# Altium footprint library con-amp-mt.PCBLIB: 51 footprints (part 3 of 4)
Each footprint in its own frame and in the unit in brackets; x right, y up, seen from the top. Pads: shape width x height; smd on the part's side, far side on the other; paste and mask are expansions set on the pad; w line width, h text height; cw(c..) or ccw(c..) is an arc to the next point about the centre after c.
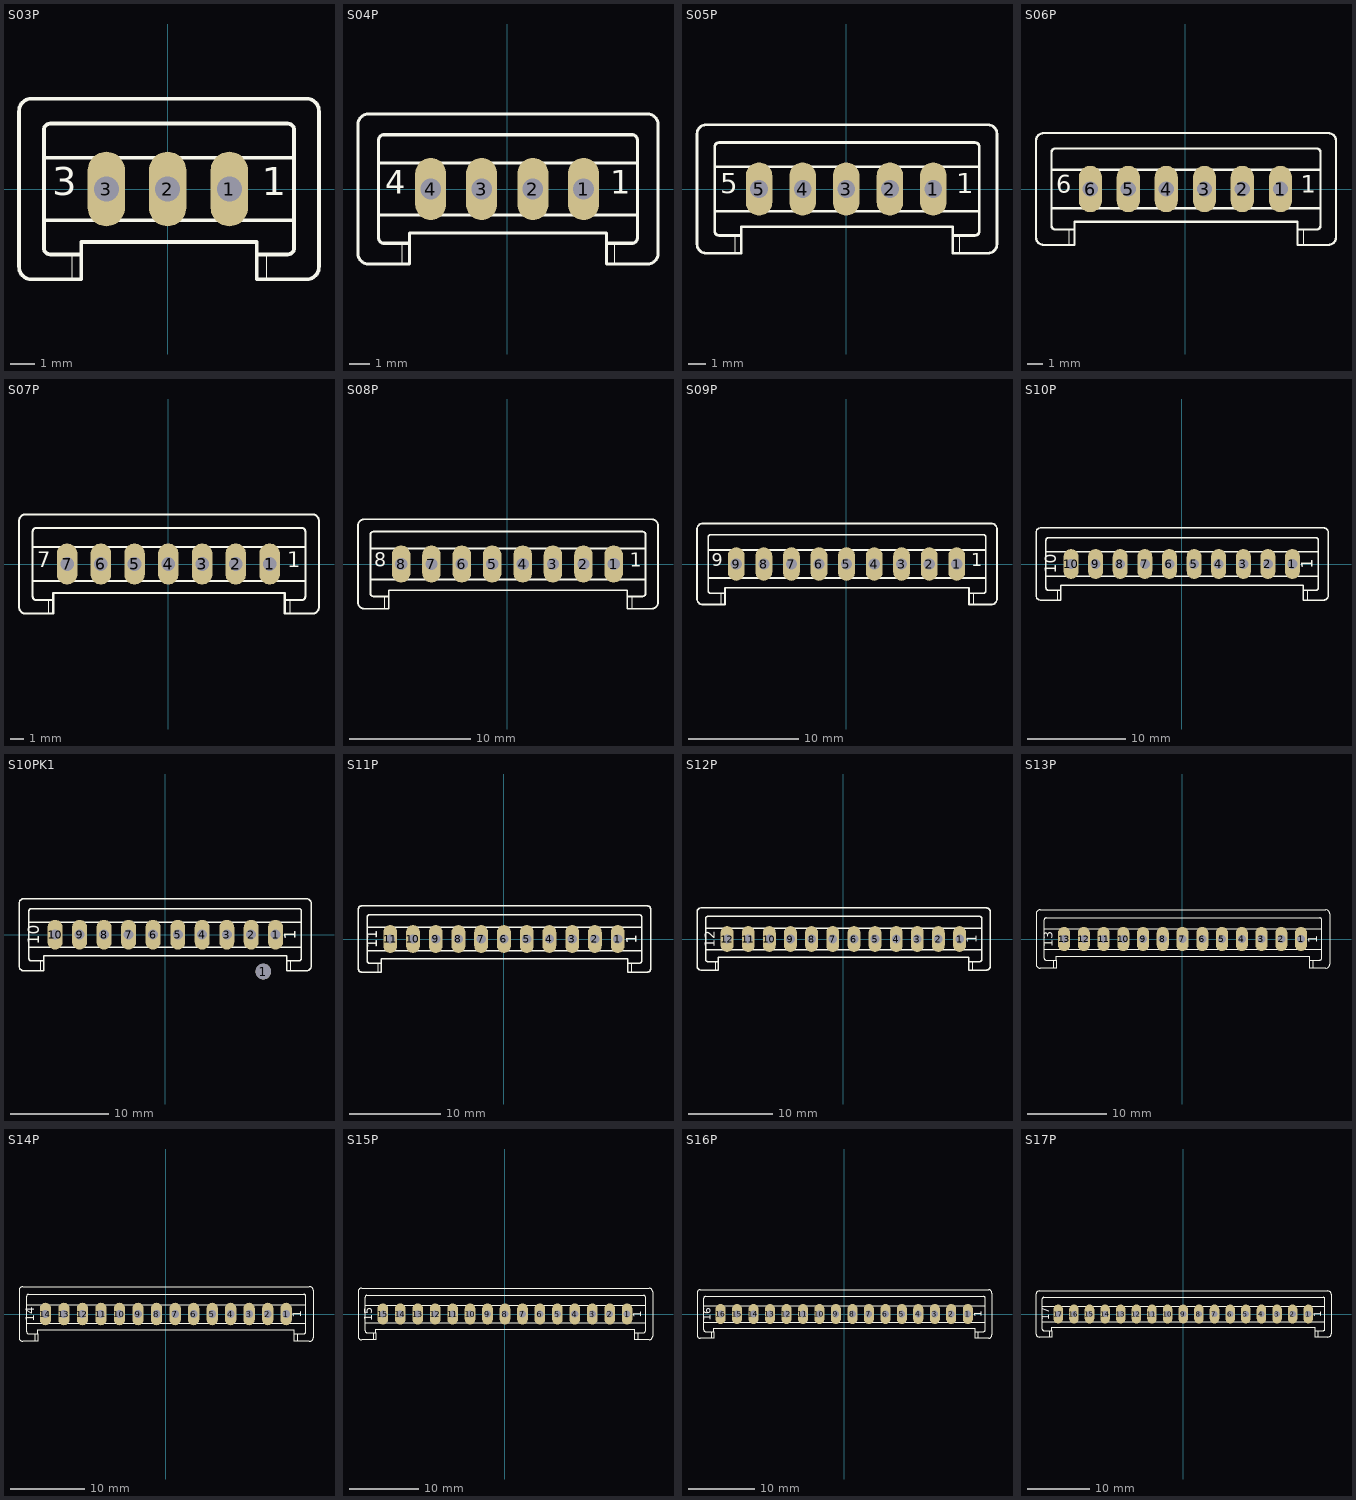
[diagram p2: the footprints below, top view; thin cyan lines are the x and y axes]

## S03P [mil]
pads (3):
  oval 60x120 hole 40: 1(99,0) 2(0,0) 3(-98.43,0)
Top Overlay:
  lines w2: -153.58,-145 -153.58,-105 ; 158,-145 158,-105
  lines w6: -198.58,-50 -198.58,-95 ccw(c-188.58,-95) -188.58,-105 -153.58,-105 -138.58,-105 ; -198.58,-50 203,-50 ; -198.58,-50 -198.58,50 ; -198.58,50 203,50 ; -198.58,50 -198.58,95 cw(c-188.58,95) -188.58,105 193,105 cw(c193,95) 203,95 203,50 ; -138.58,-105 -138.58,-145 -153.58,-145 -218.58,-145 cw(c-218.58,-125) -238.58,-125 -238.58,125 cw(c-218.58,125) -218.58,145 223,145 cw(c223,125) 243,125 243,-125 cw(c223,-125) 223,-145 158,-145 143,-145 143,-105 ; -138.58,-105 -138.58,-85 143,-85 143,-105 ; 143,-105 158,-105 193,-105 ccw(c193,-95) 203,-95 203,-50 ; 203,-50 203,50
  text "1" at 151,-25 h77.5
  text "3" at -185.57,-25 h77.5
Mechanical 16:
  lines w6: -112.56,-15 -82.56,-15 ; -112.56,-15 -112.56,15 ; -112.56,-15 -82.56,15 ; -112.56,15 -82.56,15 ; -112.56,15 -82.56,-15 ; -82.56,-15 -82.56,15 ; -14.57,-15 -14.57,15 ; -14.57,-15 16,15 ; -14.57,-15 16,-15 ; -14.57,15 16,15 ; -14.57,15 16,-15 ; 16,-15 16,15 ; 84,-15 84,15 ; 84,-15 114,15 ; 84,-15 114,-15 ; 84,15 114,15 ; 84,15 114,-15 ; 114,-15 114,15

## S04P [mil]
pads (4):
  oval 60x120 hole 40: 1(148,0) 2(50,0) 3(-49.21,0) 4(-147.64,0)
Top Overlay:
  lines w2: -203.35,-145 -203.35,-105 ; 207,-145 207,-105
  lines w6: -248.35,-50 -248.35,-95 ccw(c-238.35,-95) -238.35,-105 -203.35,-105 -188.35,-105 ; -248.35,-50 252,-50 ; -248.35,-50 -248.35,50 ; -248.35,50 252,50 ; -248.35,50 -248.35,95 cw(c-238.35,95) -238.35,105 242,105 cw(c242,95) 252,95 252,50 ; -188.35,-105 -188.35,-145 -203.35,-145 -268.35,-145 cw(c-268.35,-125) -288.35,-125 -288.35,125 cw(c-268.35,125) -268.35,145 272,145 cw(c272,125) 292,125 292,-125 cw(c272,-125) 272,-145 207,-145 192,-145 192,-105 ; -188.35,-105 -188.35,-85 192,-85 192,-105 ; 192,-105 207,-105 242,-105 ccw(c242,-95) 252,-95 252,-50 ; 252,-50 252,50
  text "1" at 200,-25 h77.5
  text "4" at -235.36,-25 h77.5
Mechanical 16:
  lines w6: -162.36,-15 -162.36,15 ; -162.36,-15 -132.36,-15 ; -162.36,-15 -132.36,15 ; -162.36,15 -132.36,15 ; -162.36,15 -132.36,-15 ; -132.36,-15 -132.36,15 ; -63.35,-15 -33.35,-15 ; -63.35,-15 -63.35,15 ; -63.35,-15 -33.35,15 ; -63.35,15 -33.35,15 ; -63.35,15 -33.35,-15 ; -33.35,-15 -33.35,15 ; 35,-15 35,15 ; 35,-15 65,15 ; 35,-15 65,-15 ; 35,15 65,15 ; 35,15 65,-15 ; 65,-15 65,15 ; 133,-15 133,15 ; 133,-15 163,15 ; 133,-15 163,-15 ; 133,15 163,15 ; 133,15 163,-15 ; 163,-15 163,15

## S05P [mil]
pads (5):
  oval 60x120 hole 40: 1(197,0) 2(99,0) 3(0,0) 4(-98.43,0) 5(-196.85,0)
Top Overlay:
  lines w2: -252.17,-145 -252.17,-105 ; 256,-145 256,-105
  lines w6: -297.17,-50 -297.17,-95 ccw(c-287.17,-95) -287.17,-105 -252.17,-105 -237.17,-105 ; -297.17,-50 301,-50 ; -297.17,-50 -297.17,50 ; -297.17,50 301,50 ; -297.17,50 -297.17,95 cw(c-287.17,95) -287.17,105 291,105 cw(c291,95) 301,95 301,50 ; -237.17,-105 -237.17,-145 -252.17,-145 -317.17,-145 cw(c-317.17,-125) -337.17,-125 -337.17,125 cw(c-317.17,125) -317.17,145 321,145 cw(c321,125) 341,125 341,-125 cw(c321,-125) 321,-145 256,-145 241,-145 241,-105 ; -237.17,-105 -237.17,-85 241,-85 241,-105 ; 241,-105 256,-105 291,-105 ccw(c291,-95) 301,-95 301,-50 ; 301,-50 301,50
  text "1" at 249,-25 h77.5
  text "5" at -284.15,-25 h77.5
Mechanical 16:
  lines w6: -211.14,-15 -181.14,15 ; -211.14,-15 -181.14,-15 ; -211.14,-15 -211.14,15 ; -211.14,15 -181.14,-15 ; -211.14,15 -181.14,15 ; -181.14,-15 -181.14,15 ; -113.15,-15 -113.15,15 ; -113.15,-15 -83.15,-15 ; -113.15,-15 -83.15,15 ; -113.15,15 -83.15,15 ; -113.15,15 -83.15,-15 ; -83.15,-15 -83.15,15 ; -14.13,-15 16,-15 ; -14.13,-15 -14.13,15 ; -14.13,-15 16,15 ; -14.13,15 16,15 ; -14.13,15 16,-15 ; 16,-15 16,15 ; 84,-15 84,15 ; 84,-15 114,15 ; 84,-15 114,-15 ; 84,15 114,15 ; 84,15 114,-15 ; 114,-15 114,15 ; 182,-15 182,15 ; 182,-15 212,15 ; 182,-15 212,-15 ; 182,15 212,15 ; 182,15 212,-15 ; 212,-15 212,15

## S06P [mil]
pads (6):
  oval 60x120 hole 40: 1(247,0) 2(148,0) 3(50,0) 4(-49.21,0) 5(-147.64,0) 6(-246.06,0)
Top Overlay:
  lines w2: -301.93,-145 -301.93,-105 ; 306,-145 306,-105
  lines w6: -346.93,-50 -346.93,-95 ccw(c-336.93,-95) -336.93,-105 -301.93,-105 -286.93,-105 ; -346.93,-50 351,-50 ; -346.93,-50 -346.93,50 ; -346.93,50 351,50 ; -346.93,50 -346.93,95 cw(c-336.93,95) -336.93,105 341,105 cw(c341,95) 351,95 351,50 ; -286.93,-105 -286.93,-145 -301.93,-145 -366.93,-145 cw(c-366.93,-125) -386.93,-125 -386.93,125 cw(c-366.93,125) -366.93,145 371,145 cw(c371,125) 391,125 391,-125 cw(c371,-125) 371,-145 306,-145 291,-145 291,-105 ; -286.93,-105 -286.93,-85 291,-85 291,-105 ; 291,-105 306,-105 341,-105 ccw(c341,-95) 351,-95 351,-50 ; 351,-50 351,50
  text "1" at 299,-25 h77.5
  text "6" at -333.94,-25 h77.5
Mechanical 16:
  lines w6: -261.93,-15 -231.93,15 ; -261.93,-15 -261.93,15 ; -261.93,-15 -231.93,-15 ; -261.93,15 -231.93,-15 ; -261.93,15 -231.93,15 ; -231.93,-15 -231.93,15 ; -161.93,-15 -131.93,15 ; -161.93,-15 -131.93,-15 ; -161.93,-15 -161.93,15 ; -161.93,15 -131.93,-15 ; -161.93,15 -131.93,15 ; -131.93,-15 -131.93,15 ; -63.94,-15 -63.94,15 ; -63.94,-15 -33.94,-15 ; -63.94,-15 -33.94,15 ; -63.94,15 -33.94,15 ; -63.94,15 -33.94,-15 ; -33.94,-15 -33.94,15 ; 36,-15 66,-15 ; 36,-15 36,15 ; 36,-15 66,15 ; 36,15 66,15 ; 36,15 66,-15 ; 66,-15 66,15 ; 134,-15 134,15 ; 134,-15 164,15 ; 134,-15 164,-15 ; 134,15 164,15 ; 134,15 164,-15 ; 164,-15 164,15 ; 232,-15 232,15 ; 232,-15 262,15 ; 232,-15 262,-15 ; 232,15 262,15 ; 232,15 262,-15 ; 262,-15 262,15

## S07P [mil]
pads (7):
  oval 60x120 hole 40: 1(296,0) 2(197,0) 3(99,0) 4(0,0) 5(-98.43,0) 6(-196.85,0) 7(-295.28,0)
Top Overlay:
  lines w2: -350.71,-145 -350.71,-105 ; 355,-145 355,-105
  lines w6: -395.71,-50 -395.71,-95 ccw(c-385.71,-95) -385.71,-105 -350.71,-105 -335.71,-105 ; -395.71,-50 400,-50 ; -395.71,-50 -395.71,50 ; -395.71,50 400,50 ; -395.71,50 -395.71,95 cw(c-385.71,95) -385.71,105 390,105 cw(c390,95) 400,95 400,50 ; -335.71,-105 -335.71,-145 -350.71,-145 -415.71,-145 cw(c-415.71,-125) -435.71,-125 -435.71,125 cw(c-415.71,125) -415.71,145 420,145 cw(c420,125) 440,125 440,-125 cw(c420,-125) 420,-145 355,-145 340,-145 340,-105 ; -335.71,-105 -335.71,-85 340,-85 340,-105 ; 340,-105 355,-105 390,-105 ccw(c390,-95) 400,-95 400,-50 ; 400,-50 400,50
  text "1" at 348,-25 h77.5
  text "7" at -382.72,-25 h77.5
Mechanical 16:
  lines w6: -310.71,-15 -280.71,-15 ; -310.71,-15 -310.71,15 ; -310.71,-15 -280.71,15 ; -310.71,15 -280.71,15 ; -310.71,15 -280.71,-15 ; -280.71,-15 -280.71,15 ; -212.72,-15 -182.72,15 ; -212.72,-15 -212.72,15 ; -212.72,-15 -182.72,-15 ; -212.72,15 -182.72,-15 ; -212.72,15 -182.72,15 ; -182.72,-15 -182.72,15 ; -112.72,-15 -82.72,15 ; -112.72,-15 -82.72,-15 ; -112.72,-15 -112.72,15 ; -112.72,15 -82.72,-15 ; -112.72,15 -82.72,15 ; -82.72,-15 -82.72,15 ; -14.72,-15 -14.72,15 ; -14.72,-15 16,-15 ; -14.72,-15 16,15 ; -14.72,15 16,15 ; -14.72,15 16,-15 ; 16,-15 16,15 ; 85,-15 115,-15 ; 85,-15 85,15 ; 85,-15 115,15 ; 85,15 115,15 ; 85,15 115,-15 ; 115,-15 115,15 ; 183,-15 183,15 ; 183,-15 213,15 ; 183,-15 213,-15 ; 183,15 213,15 ; 183,15 213,-15 ; 213,-15 213,15 ; 281,-15 281,15 ; 281,-15 311,15 ; 281,-15 311,-15 ; 281,15 311,15 ; 281,15 311,-15 ; 311,-15 311,15

## S08P [mil]
pads (8):
  oval 60x120 hole 40: 1(345,0) 2(247,0) 3(148,0) 4(50,0) 5(-49.21,0) 6(-147.64,0) 7(-246.06,0) 8(-344.49,0)
Top Overlay:
  lines w2: -399.53,-145 -399.53,-105 ; 404,-145 404,-105
  lines w6: -444.53,-50 -444.53,-95 ccw(c-434.53,-95) -434.53,-105 -399.53,-105 -384.53,-105 ; -444.53,-50 449,-50 ; -444.53,-50 -444.53,50 ; -444.53,50 449,50 ; -444.53,50 -444.53,95 cw(c-434.53,95) -434.53,105 439,105 cw(c439,95) 449,95 449,50 ; -384.53,-105 -384.53,-145 -399.53,-145 -464.53,-145 cw(c-464.53,-125) -484.53,-125 -484.53,125 cw(c-464.53,125) -464.53,145 469,145 cw(c469,125) 489,125 489,-125 cw(c469,-125) 469,-145 404,-145 389,-145 389,-105 ; -384.53,-105 -384.53,-85 389,-85 389,-105 ; 389,-105 404,-105 439,-105 ccw(c439,-95) 449,-95 449,-50 ; 449,-50 449,50
  text "1" at 397,-25 h77.5
  text "8" at -431.51,-25 h77.5
Mechanical 16:
  lines w6: -360.51,-15 -330.51,-15 ; -360.51,-15 -360.51,15 ; -360.51,-15 -330.51,15 ; -360.51,15 -330.51,15 ; -360.51,15 -330.51,-15 ; -330.51,-15 -330.51,15 ; -261.5,-15 -231.5,-15 ; -261.5,-15 -261.5,15 ; -261.5,-15 -231.5,15 ; -261.5,15 -231.5,15 ; -261.5,15 -231.5,-15 ; -231.5,-15 -231.5,15 ; -163.5,-15 -133.5,15 ; -163.5,-15 -163.5,15 ; -163.5,-15 -133.5,-15 ; -163.5,15 -133.5,-15 ; -163.5,15 -133.5,15 ; -133.5,-15 -133.5,15 ; -63.5,-15 -33.5,15 ; -63.5,-15 -33.5,-15 ; -63.5,-15 -63.5,15 ; -63.5,15 -33.5,-15 ; -63.5,15 -33.5,15 ; -33.5,-15 -33.5,15 ; 35,-15 35,15 ; 35,-15 65,-15 ; 35,-15 65,15 ; 35,15 65,15 ; 35,15 65,-15 ; 65,-15 65,15 ; 134,-15 164,-15 ; 134,-15 134,15 ; 134,-15 164,15 ; 134,15 164,15 ; 134,15 164,-15 ; 164,-15 164,15 ; 232,-15 232,15 ; 232,-15 262,15 ; 232,-15 262,-15 ; 232,15 262,15 ; 232,15 262,-15 ; 262,-15 262,15 ; 330,-15 330,15 ; 330,-15 360,15 ; 330,-15 360,-15 ; 330,15 360,15 ; 330,15 360,-15 ; 360,-15 360,15

## S09P [mil]
pads (9):
  oval 60x120 hole 40: 1(394,0) 2(296,0) 3(197,0) 4(99,0) 5(0,0) 6(-98.43,0) 7(-196.85,0) 8(-295.28,0) 9(-393.7,0)
Top Overlay:
  lines w2: -449.3,-145 -449.3,-105 ; 453,-145 453,-105
  lines w6: -494.3,-50 -494.3,-95 ccw(c-484.3,-95) -484.3,-105 -449.3,-105 -434.3,-105 ; -494.3,-50 498,-50 ; -494.3,-50 -494.3,50 ; -494.3,50 498,50 ; -494.3,50 -494.3,95 cw(c-484.3,95) -484.3,105 488,105 cw(c488,95) 498,95 498,50 ; -434.3,-105 -434.3,-145 -449.3,-145 -514.3,-145 cw(c-514.3,-125) -534.3,-125 -534.3,125 cw(c-514.3,125) -514.3,145 518,145 cw(c518,125) 538,125 538,-125 cw(c518,-125) 518,-145 453,-145 438,-145 438,-105 ; -434.3,-105 -434.3,-85 438,-85 438,-105 ; 438,-105 453,-105 488,-105 ccw(c488,-95) 498,-95 498,-50 ; 498,-50 498,50
  text "1" at 446,-25 h77.5
  text "9" at -481.3,-25 h77.5
Mechanical 16:
  lines w6: -409.3,-15 -409.3,15 ; -409.3,-15 -379.3,15 ; -409.3,-15 -379.3,-15 ; -409.3,15 -379.3,15 ; -409.3,15 -379.3,-15 ; -379.3,-15 -379.3,15 ; -311.3,-15 -281.3,-15 ; -311.3,-15 -311.3,15 ; -311.3,-15 -281.3,15 ; -311.3,15 -281.3,15 ; -311.3,15 -281.3,-15 ; -281.3,-15 -281.3,15 ; -212.3,-15 -182.3,-15 ; -212.3,-15 -212.3,15 ; -212.3,-15 -182.3,15 ; -212.3,15 -182.3,15 ; -212.3,15 -182.3,-15 ; -182.3,-15 -182.3,15 ; -114.3,-15 -84.3,15 ; -114.3,-15 -114.3,15 ; -114.3,-15 -84.3,-15 ; -114.3,15 -84.3,-15 ; -114.3,15 -84.3,15 ; -84.3,-15 -84.3,15 ; -14.3,-15 16,15 ; -14.3,-15 16,-15 ; -14.3,-15 -14.3,15 ; -14.3,15 16,-15 ; -14.3,15 16,15 ; 16,-15 16,15 ; 84,-15 84,15 ; 84,-15 114,-15 ; 84,-15 114,15 ; 84,15 114,15 ; 84,15 114,-15 ; 114,-15 114,15 ; 183,-15 213,-15 ; 183,-15 183,15 ; 183,-15 213,15 ; 183,15 213,15 ; 183,15 213,-15 ; 213,-15 213,15 ; 281,-15 281,15 ; 281,-15 311,15 ; 281,-15 311,-15 ; 281,15 311,15 ; 281,15 311,-15 ; 311,-15 311,15 ; 379,-15 379,15 ; 379,-15 409,15 ; 379,-15 409,-15 ; 379,15 409,15 ; 379,15 409,-15 ; 409,-15 409,15

## S10P [mil]
pads (10):
  oval 60x120 hole 40: 1(443,0) 2(345,0) 3(247,0) 4(148,0) 5(50,0) 6(-49.21,0) 7(-147.64,0) 8(-246.06,0) 9(-344.49,0) 10(-442.91,0)
Top Overlay:
  lines w2: -498.07,-145 -498.07,-105 ; 502,-145 502,-105
  lines w6: -543.07,-50 -543.07,-95 ccw(c-533.07,-95) -533.07,-105 -498.07,-105 -483.07,-105 ; -543.07,-50 547,-50 ; -543.07,-50 -543.07,50 ; -543.07,50 547,50 ; -543.07,50 -543.07,95 cw(c-533.07,95) -533.07,105 537,105 cw(c537,95) 547,95 547,50 ; -483.07,-105 -483.07,-145 -498.07,-145 -563.07,-145 cw(c-563.07,-125) -583.07,-125 -583.07,125 cw(c-563.07,125) -563.07,145 567,145 cw(c567,125) 587,125 587,-125 cw(c567,-125) 567,-145 502,-145 487,-145 487,-105 ; -483.07,-105 -483.07,-85 487,-85 487,-105 ; 487,-105 502,-105 537,-105 ccw(c537,-95) 547,-95 547,-50 ; 547,-50 547,50
  text "1" at 540,-20 h77.5
  text "10" at -485.09,-40 h77.5
Mechanical 16:
  lines w6: -458.07,-15 -428.07,-15 ; -458.07,-15 -458.07,15 ; -458.07,-15 -428.07,15 ; -458.07,15 -428.07,15 ; -458.07,15 -428.07,-15 ; -428.07,-15 -428.07,15 ; -360.08,-15 -360.08,15 ; -360.08,-15 -330.08,15 ; -360.08,-15 -330.08,-15 ; -360.08,15 -330.08,15 ; -360.08,15 -330.08,-15 ; -330.08,-15 -330.08,15 ; -262.09,-15 -232.09,-15 ; -262.09,-15 -262.09,15 ; -262.09,-15 -232.09,15 ; -262.09,15 -232.09,15 ; -262.09,15 -232.09,-15 ; -232.09,-15 -232.09,15 ; -163.07,-15 -133.07,-15 ; -163.07,-15 -163.07,15 ; -163.07,-15 -133.07,15 ; -163.07,15 -133.07,15 ; -163.07,15 -133.07,-15 ; -133.07,-15 -133.07,15 ; -65.08,-15 -35.08,15 ; -65.08,-15 -65.08,15 ; -65.08,-15 -35.08,-15 ; -65.08,15 -35.08,-15 ; -65.08,15 -35.08,15 ; -35.08,-15 -35.08,15 ; 35,-15 65,15 ; 35,-15 65,-15 ; 35,-15 35,15 ; 35,15 65,-15 ; 35,15 65,15 ; 65,-15 65,15 ; 133,-15 133,15 ; 133,-15 163,-15 ; 133,-15 163,15 ; 133,15 163,15 ; 133,15 163,-15 ; 163,-15 163,15 ; 232,-15 262,-15 ; 232,-15 232,15 ; 232,-15 262,15 ; 232,15 262,15 ; 232,15 262,-15 ; 262,-15 262,15 ; 330,-15 330,15 ; 330,-15 360,15 ; 330,-15 360,-15 ; 330,15 360,15 ; 330,15 360,-15 ; 360,-15 360,15 ; 428,-15 428,15 ; 428,-15 458,15 ; 428,-15 458,-15 ; 428,15 458,15 ; 428,15 458,-15 ; 458,-15 458,15

## S10PK1 [mil]
pads (11):
  round 63 hole 63: 1(394,-148)
  oval 60x120 hole 40: 1(443,0) 2(345,0) 3(247,0) 4(148,0) 5(50,0) 6(-49.21,0) 7(-147.64,0) 8(-246.06,0) 9(-344.49,0) 10(-442.91,0)
Top Overlay:
  lines w2: -503.07,-145 -503.07,-105 ; 502,-145 502,-105
  lines w6: -548.07,-50 -548.07,-95 ccw(c-538.07,-95) -538.07,-105 -503.07,-105 -488.07,-105 ; -548.07,-50 547,-50 ; -548.07,-50 -548.07,50 ; -548.07,50 547,50 ; -548.07,50 -548.07,95 cw(c-538.07,95) -538.07,105 537,105 cw(c537,95) 547,95 547,50 ; -488.07,-105 -488.07,-145 -503.07,-145 -568.07,-145 cw(c-568.07,-125) -588.07,-125 -588.07,125 cw(c-568.07,125) -568.07,145 567,145 cw(c567,125) 587,125 587,-125 cw(c567,-125) 567,-145 502,-145 487,-145 487,-105 ; -488.07,-105 -488.07,-85 487,-85 487,-105 ; 487,-105 502,-105 537,-105 ccw(c537,-95) 547,-95 547,-50 ; 547,-50 547,50
  text "1" at 540,-20 h77.5
  text "10" at -490.09,-40 h77.5
Mechanical 16:
  lines w6: -458.07,-15 -428.07,-15 ; -458.07,-15 -458.07,15 ; -458.07,-15 -428.07,15 ; -458.07,15 -428.07,15 ; -458.07,15 -428.07,-15 ; -428.07,-15 -428.07,15 ; -360.08,-15 -360.08,15 ; -360.08,-15 -330.08,15 ; -360.08,-15 -330.08,-15 ; -360.08,15 -330.08,15 ; -360.08,15 -330.08,-15 ; -330.08,-15 -330.08,15 ; -262.09,-15 -232.09,-15 ; -262.09,-15 -262.09,15 ; -262.09,-15 -232.09,15 ; -262.09,15 -232.09,15 ; -262.09,15 -232.09,-15 ; -232.09,-15 -232.09,15 ; -163.07,-15 -133.07,-15 ; -163.07,-15 -163.07,15 ; -163.07,-15 -133.07,15 ; -163.07,15 -133.07,15 ; -163.07,15 -133.07,-15 ; -133.07,-15 -133.07,15 ; -65.08,-15 -35.08,15 ; -65.08,-15 -65.08,15 ; -65.08,-15 -35.08,-15 ; -65.08,15 -35.08,-15 ; -65.08,15 -35.08,15 ; -35.08,-15 -35.08,15 ; 35,-15 65,15 ; 35,-15 65,-15 ; 35,-15 35,15 ; 35,15 65,-15 ; 35,15 65,15 ; 65,-15 65,15 ; 133,-15 133,15 ; 133,-15 163,-15 ; 133,-15 163,15 ; 133,15 163,15 ; 133,15 163,-15 ; 163,-15 163,15 ; 232,-15 262,-15 ; 232,-15 232,15 ; 232,-15 262,15 ; 232,15 262,15 ; 232,15 262,-15 ; 262,-15 262,15 ; 330,-15 330,15 ; 330,-15 360,15 ; 330,-15 360,-15 ; 330,15 360,15 ; 330,15 360,-15 ; 360,-15 360,15 ; 428,-15 428,15 ; 428,-15 458,15 ; 428,-15 458,-15 ; 428,15 458,15 ; 428,15 458,-15 ; 458,-15 458,15

## S11P [mil]
pads (11):
  oval 60x120 hole 40: 1(493,0) 2(394,0) 3(296,0) 4(197,0) 5(99,0) 6(0,0) 7(-98.43,0) 8(-196.85,0) 9(-295.28,0) 10(-393.7,0) 11(-492.13,0)
Top Overlay:
  lines w2: -546.89,-145 -546.89,-105 ; 552,-145 552,-105
  lines w6: -591.89,-50 -591.89,-95 ccw(c-581.89,-95) -581.89,-105 -546.89,-105 -531.89,-105 ; -591.89,-50 597,-50 ; -591.89,-50 -591.89,50 ; -591.89,50 597,50 ; -591.89,50 -591.89,95 cw(c-581.89,95) -581.89,105 587,105 cw(c587,95) 597,95 597,50 ; -531.89,-105 -531.89,-145 -546.89,-145 -611.89,-145 cw(c-611.89,-125) -631.89,-125 -631.89,125 cw(c-611.89,125) -611.89,145 617,145 cw(c617,125) 637,125 637,-125 cw(c617,-125) 617,-145 552,-145 537,-145 537,-105 ; -531.89,-105 -531.89,-85 537,-85 537,-105 ; 537,-105 552,-105 587,-105 ccw(c587,-95) 597,-95 597,-50 ; 597,-50 597,50
  text "1" at 590,-20 h77.5
  text "11" at -533.87,-40 h77.5
Mechanical 16:
  lines w6: -506.89,-15 -476.89,-15 ; -506.89,-15 -506.89,15 ; -506.89,-15 -476.89,15 ; -506.89,15 -476.89,-15 ; -506.89,15 -476.89,15 ; -476.89,-15 -476.89,15 ; -408.86,-15 -378.86,-15 ; -408.86,-15 -408.86,15 ; -408.86,-15 -378.86,15 ; -408.86,15 -378.86,15 ; -408.86,15 -378.86,-15 ; -378.86,-15 -378.86,15 ; -310.87,-15 -310.87,15 ; -310.87,-15 -280.87,15 ; -310.87,-15 -280.87,-15 ; -310.87,15 -280.87,15 ; -310.87,15 -280.87,-15 ; -280.87,-15 -280.87,15 ; -212.87,-15 -182.87,-15 ; -212.87,-15 -212.87,15 ; -212.87,-15 -182.87,15 ; -212.87,15 -182.87,15 ; -212.87,15 -182.87,-15 ; -182.87,-15 -182.87,15 ; -113.86,-15 -83.86,-15 ; -113.86,-15 -113.86,15 ; -113.86,-15 -83.86,15 ; -113.86,15 -83.86,15 ; -113.86,15 -83.86,-15 ; -83.86,-15 -83.86,15 ; -15.87,-15 15,15 ; -15.87,-15 -15.87,15 ; -15.87,-15 15,-15 ; -15.87,15 15,-15 ; -15.87,15 15,15 ; 15,-15 15,15 ; 85,-15 115,15 ; 85,-15 115,-15 ; 85,-15 85,15 ; 85,15 115,-15 ; 85,15 115,15 ; 115,-15 115,15 ; 183,-15 183,15 ; 183,-15 213,-15 ; 183,-15 213,15 ; 183,15 213,15 ; 183,15 213,-15 ; 213,-15 213,15 ; 282,-15 312,-15 ; 282,-15 282,15 ; 282,-15 312,15 ; 282,15 312,15 ; 282,15 312,-15 ; 312,-15 312,15 ; 380,-15 380,15 ; 380,-15 410,15 ; 380,-15 410,-15 ; 380,15 410,15 ; 380,15 410,-15 ; 410,-15 410,15 ; 478,-15 478,15 ; 478,-15 508,15 ; 478,-15 508,-15 ; 478,15 508,15 ; 478,15 508,-15 ; 508,-15 508,15

## S12P [mil]
pads (12):
  oval 60x120 hole 40: 1(542,0) 2(443,0) 3(345,0) 4(247,0) 5(148,0) 6(50,0) 7(-49.21,0) 8(-147.64,0) 9(-246.06,0) 10(-344.49,0) 11(-442.91,0) 12(-541.34,0)
Top Overlay:
  lines w2: -596.65,-145 -596.65,-105 ; 601,-145 601,-105
  lines w6: -641.65,-50 -641.65,-95 ccw(c-631.65,-95) -631.65,-105 -596.65,-105 -581.65,-105 ; -641.65,-50 646,-50 ; -641.65,-50 -641.65,50 ; -641.65,50 646,50 ; -641.65,50 -641.65,95 cw(c-631.65,95) -631.65,105 636,105 cw(c636,95) 646,95 646,50 ; -581.65,-105 -581.65,-145 -596.65,-145 -661.65,-145 cw(c-661.65,-125) -681.65,-125 -681.65,125 cw(c-661.65,125) -661.65,145 666,145 cw(c666,125) 686,125 686,-125 cw(c666,-125) 666,-145 601,-145 586,-145 586,-105 ; -581.65,-105 -581.65,-85 586,-85 586,-105 ; 586,-105 601,-105 636,-105 ccw(c636,-95) 646,-95 646,-50 ; 646,-50 646,50
  text "1" at 639,-20 h77.5
  text "12" at -583.66,-40 h77.5
Mechanical 16:
  lines w6: -556.65,-15 -526.65,15 ; -556.65,-15 -556.65,15 ; -556.65,-15 -526.65,-15 ; -556.65,15 -526.65,-15 ; -556.65,15 -526.65,15 ; -526.65,-15 -526.65,15 ; -457.68,-15 -427.68,15 ; -457.68,-15 -457.68,15 ; -457.68,-15 -427.68,-15 ; -457.68,15 -427.68,-15 ; -457.68,15 -427.68,15 ; -427.68,-15 -427.68,15 ; -359.65,-15 -329.65,-15 ; -359.65,-15 -359.65,15 ; -359.65,-15 -329.65,15 ; -359.65,15 -329.65,15 ; -359.65,15 -329.65,-15 ; -329.65,-15 -329.65,15 ; -261.65,-15 -261.65,15 ; -261.65,-15 -231.65,15 ; -261.65,-15 -231.65,-15 ; -261.65,15 -231.65,15 ; -261.65,15 -231.65,-15 ; -231.65,-15 -231.65,15 ; -163.66,-15 -133.66,-15 ; -163.66,-15 -163.66,15 ; -163.66,-15 -133.66,15 ; -163.66,15 -133.66,15 ; -163.66,15 -133.66,-15 ; -133.66,-15 -133.66,15 ; -64.65,-15 -34.65,-15 ; -64.65,-15 -64.65,15 ; -64.65,-15 -34.65,15 ; -64.65,15 -34.65,15 ; -64.65,15 -34.65,-15 ; -34.65,-15 -34.65,15 ; 34,-15 64,15 ; 34,-15 34,15 ; 34,-15 64,-15 ; 34,15 64,-15 ; 34,15 64,15 ; 64,-15 64,15 ; 134,-15 164,15 ; 134,-15 164,-15 ; 134,-15 134,15 ; 134,15 164,-15 ; 134,15 164,15 ; 164,-15 164,15 ; 232,-15 232,15 ; 232,-15 262,-15 ; 232,-15 262,15 ; 232,15 262,15 ; 232,15 262,-15 ; 262,-15 262,15 ; 331,-15 361,-15 ; 331,-15 331,15 ; 331,-15 361,15 ; 331,15 361,15 ; 331,15 361,-15 ; 361,-15 361,15 ; 429,-15 429,15 ; 429,-15 459,15 ; 429,-15 459,-15 ; 429,15 459,15 ; 429,15 459,-15 ; 459,-15 459,15 ; 527,-15 527,15 ; 527,-15 557,15 ; 527,-15 557,-15 ; 527,15 557,15 ; 527,15 557,-15 ; 557,-15 557,15

## S13P [mil]
pads (13):
  oval 60x120 hole 40: 1(591,0) 2(493,0) 3(394,0) 4(296,0) 5(197,0) 6(99,0) 7(0,0) 8(-98.43,0) 9(-196.85,0) 10(-295.28,0) 11(-393.7,0) 12(-492.13,0) 13(-590.55,0)
Top Overlay:
  lines w2: -645.43,-145 -645.43,-105 ; 650,-145 650,-105
  lines w6: -690.43,-50 -690.43,-95 ccw(c-680.43,-95) -680.43,-105 -645.43,-105 -630.43,-105 ; -690.43,-50 695,-50 ; -690.43,-50 -690.43,50 ; -690.43,50 695,50 ; -690.43,50 -690.43,95 cw(c-680.43,95) -680.43,105 685,105 cw(c685,95) 695,95 695,50 ; -630.43,-105 -630.43,-145 -645.43,-145 -710.43,-145 cw(c-710.43,-125) -730.43,-125 -730.43,125 cw(c-710.43,125) -710.43,145 715,145 cw(c715,125) 735,125 735,-125 cw(c715,-125) 715,-145 650,-145 635,-145 635,-105 ; -630.43,-105 -630.43,-85 635,-85 635,-105 ; 635,-105 650,-105 685,-105 ccw(c685,-95) 695,-95 695,-50 ; 695,-50 695,50
  text "1" at 688,-20 h77.5
  text "13" at -632.45,-40 h77.5
Mechanical 16:
  lines w6: -605.43,-15 -575.43,15 ; -605.43,-15 -575.43,-15 ; -605.43,-15 -605.43,15 ; -605.43,15 -575.43,-15 ; -605.43,15 -575.43,15 ; -575.43,-15 -575.43,15 ; -507.44,-15 -477.44,15 ; -507.44,-15 -477.44,-15 ; -507.44,-15 -507.44,15 ; -507.44,15 -477.44,-15 ; -507.44,15 -477.44,15 ; -477.44,-15 -477.44,15 ; -408.46,-15 -378.46,15 ; -408.46,-15 -378.46,-15 ; -408.46,-15 -408.46,15 ; -408.46,15 -378.46,-15 ; -408.46,15 -378.46,15 ; -378.46,-15 -378.46,15 ; -310.43,-15 -280.43,-15 ; -310.43,-15 -310.43,15 ; -310.43,-15 -280.43,15 ; -310.43,15 -280.43,15 ; -310.43,15 -280.43,-15 ; -280.43,-15 -280.43,15 ; -212.44,-15 -212.44,15 ; -212.44,-15 -182.44,15 ; -212.44,-15 -182.44,-15 ; -212.44,15 -182.44,15 ; -212.44,15 -182.44,-15 ; -182.44,-15 -182.44,15 ; -114.45,-15 -84.45,-15 ; -114.45,-15 -114.45,15 ; -114.45,-15 -84.45,15 ; -114.45,15 -84.45,15 ; -114.45,15 -84.45,-15 ; -84.45,-15 -84.45,15 ; -15.43,-15 15,-15 ; -15.43,-15 -15.43,15 ; -15.43,-15 15,15 ; -15.43,15 15,15 ; -15.43,15 15,-15 ; 15,-15 15,15 ; 83,-15 113,15 ; 83,-15 83,15 ; 83,-15 113,-15 ; 83,15 113,-15 ; 83,15 113,15 ; 113,-15 113,15 ; 183,-15 213,15 ; 183,-15 213,-15 ; 183,-15 183,15 ; 183,15 213,-15 ; 183,15 213,15 ; 213,-15 213,15 ; 281,-15 281,15 ; 281,-15 311,-15 ; 281,-15 311,15 ; 281,15 311,15 ; 281,15 311,-15 ; 311,-15 311,15 ; 380,-15 410,-15 ; 380,-15 380,15 ; 380,-15 410,15 ; 380,15 410,15 ; 380,15 410,-15 ; 410,-15 410,15 ; 478,-15 478,15 ; 478,-15 508,15 ; 478,-15 508,-15 ; 478,15 508,15 ; 478,15 508,-15 ; 508,-15 508,15 ; 576,-15 576,15 ; 576,-15 606,15 ; 576,-15 606,-15 ; 576,15 606,15 ; 576,15 606,-15 ; 606,-15 606,15

## S14P [mil]
pads (14):
  oval 60x120 hole 40: 1(640,0) 2(542,0) 3(443,0) 4(345,0) 5(247,0) 6(148,0) 7(50,0) 8(-49.21,0) 9(-147.64,0) 10(-246.06,0) 11(-344.49,0) 12(-442.91,0) 13(-541.34,0) 14(-639.76,0)
Top Overlay:
  lines w2: -695.24,-145 -695.24,-105 ; 699,-145 699,-105
  lines w6: -740.24,-50 -740.24,-95 ccw(c-730.24,-95) -730.24,-105 -695.24,-105 -680.24,-105 ; -740.24,-50 744,-50 ; -740.24,-50 -740.24,50 ; -740.24,50 744,50 ; -740.24,50 -740.24,95 cw(c-730.24,95) -730.24,105 734,105 cw(c734,95) 744,95 744,50 ; -680.24,-105 -680.24,-145 -695.24,-145 -760.24,-145 cw(c-760.24,-125) -780.24,-125 -780.24,125 cw(c-760.24,125) -760.24,145 764,145 cw(c764,125) 784,125 784,-125 cw(c764,-125) 764,-145 699,-145 684,-145 684,-105 ; -680.24,-105 -680.24,-85 684,-85 684,-105 ; 684,-105 699,-105 734,-105 ccw(c734,-95) 744,-95 744,-50 ; 744,-50 744,50
  text "1" at 737,-20 h77.5
  text "14" at -682.24,-40 h77.5
Mechanical 16:
  lines w6: -655.24,-15 -625.24,-15 ; -655.24,-15 -655.24,15 ; -655.24,-15 -625.24,15 ; -655.24,15 -625.24,-15 ; -655.24,15 -625.24,15 ; -625.24,-15 -625.24,15 ; -556.22,-15 -526.22,-15 ; -556.22,-15 -556.22,15 ; -556.22,-15 -526.22,15 ; -556.22,15 -526.22,-15 ; -556.22,15 -526.22,15 ; -526.22,-15 -526.22,15 ; -458.23,-15 -428.23,-15 ; -458.23,-15 -458.23,15 ; -458.23,-15 -428.23,15 ; -458.23,15 -428.23,-15 ; -458.23,15 -428.23,15 ; -428.23,-15 -428.23,15 ; -359.25,-15 -329.25,-15 ; -359.25,-15 -359.25,15 ; -359.25,-15 -329.25,15 ; -359.25,15 -329.25,-15 ; -359.25,15 -329.25,15 ; -329.25,-15 -329.25,15 ; -261.22,-15 -231.22,-15 ; -261.22,-15 -261.22,15 ; -261.22,-15 -231.22,15 ; -261.22,15 -231.22,15 ; -261.22,15 -231.22,-15 ; -231.22,-15 -231.22,15 ; -163.23,-15 -163.23,15 ; -163.23,-15 -133.23,15 ; -163.23,-15 -133.23,-15 ; -163.23,15 -133.23,15 ; -163.23,15 -133.23,-15 ; -133.23,-15 -133.23,15 ; -65.24,-15 -35.24,-15 ; -65.24,-15 -65.24,15 ; -65.24,-15 -35.24,15 ; -65.24,15 -35.24,15 ; -65.24,15 -35.24,-15 ; -35.24,-15 -35.24,15 ; 34,-15 64,-15 ; 34,-15 34,15 ; 34,-15 64,15 ; 34,15 64,15 ; 34,15 64,-15 ; 64,-15 64,15 ; 132,-15 162,15 ; 132,-15 132,15 ; 132,-15 162,-15 ; 132,15 162,-15 ; 132,15 162,15 ; 162,-15 162,15 ; 232,-15 262,15 ; 232,-15 262,-15 ; 232,-15 232,15 ; 232,15 262,-15 ; 232,15 262,15 ; 262,-15 262,15 ; 330,-15 330,15 ; 330,-15 360,-15 ; 330,-15 360,15 ; 330,15 360,15 ; 330,15 360,-15 ; 360,-15 360,15 ; 429,-15 459,-15 ; 429,-15 429,15 ; 429,-15 459,15 ; 429,15 459,15 ; 429,15 459,-15 ; 459,-15 459,15 ; 527,-15 527,15 ; 527,-15 557,15 ; 527,-15 557,-15 ; 527,15 557,15 ; 527,15 557,-15 ; 557,-15 557,15 ; 625,-15 625,15 ; 625,-15 655,15 ; 625,-15 655,-15 ; 625,15 655,15 ; 625,15 655,-15 ; 655,-15 655,15

## S15P [mil]
pads (15):
  oval 60x120 hole 40: 1(689,0) 2(591,0) 3(493,0) 4(394,0) 5(296,0) 6(197,0) 7(99,0) 8(0,0) 9(-98.43,0) 10(-196.85,0) 11(-295.28,0) 12(-393.7,0) 13(-492.13,0) 14(-590.55,0) 15(-688.98,0)
Top Overlay:
  lines w2: -744.02,-145 -744.02,-105 ; 748,-145 748,-105
  lines w6: -789.02,-50 -789.02,-95 ccw(c-779.02,-95) -779.02,-105 -744.02,-105 -729.02,-105 ; -789.02,-50 793,-50 ; -789.02,-50 -789.02,50 ; -789.02,50 793,50 ; -789.02,50 -789.02,95 cw(c-779.02,95) -779.02,105 783,105 cw(c783,95) 793,95 793,50 ; -729.02,-105 -729.02,-145 -744.02,-145 -809.02,-145 cw(c-809.02,-125) -829.02,-125 -829.02,125 cw(c-809.02,125) -809.02,145 813,145 cw(c813,125) 833,125 833,-125 cw(c813,-125) 813,-145 748,-145 733,-145 733,-105 ; -729.02,-105 -729.02,-85 733,-85 733,-105 ; 733,-105 748,-105 783,-105 ccw(c783,-95) 793,-95 793,-50 ; 793,-50 793,50
  text "1" at 786,-20 h77.5
  text "15" at -731.02,-40 h77.5
Mechanical 16:
  lines w6: -704.02,-15 -674.02,-15 ; -704.02,-15 -704.02,15 ; -704.02,-15 -674.02,15 ; -704.02,15 -674.02,-15 ; -704.02,15 -674.02,15 ; -674.02,-15 -674.02,15 ; -606.02,-15 -576.02,-15 ; -606.02,-15 -606.02,15 ; -606.02,-15 -576.02,15 ; -606.02,15 -576.02,-15 ; -606.02,15 -576.02,15 ; -576.02,-15 -576.02,15 ; -507.01,-15 -477.01,-15 ; -507.01,-15 -507.01,15 ; -507.01,-15 -477.01,15 ; -507.01,15 -477.01,-15 ; -507.01,15 -477.01,15 ; -477.01,-15 -477.01,15 ; -409.02,-15 -379.02,-15 ; -409.02,-15 -409.02,15 ; -409.02,-15 -379.02,15 ; -409.02,15 -379.02,-15 ; -409.02,15 -379.02,15 ; -379.02,-15 -379.02,15 ; -310.04,-15 -280.04,-15 ; -310.04,-15 -310.04,15 ; -310.04,-15 -280.04,15 ; -310.04,15 -280.04,-15 ; -310.04,15 -280.04,15 ; -280.04,-15 -280.04,15 ; -212.01,-15 -182.01,-15 ; -212.01,-15 -212.01,15 ; -212.01,-15 -182.01,15 ; -212.01,15 -182.01,15 ; -212.01,15 -182.01,-15 ; -182.01,-15 -182.01,15 ; -114.02,-15 -114.02,15 ; -114.02,-15 -84.02,15 ; -114.02,-15 -84.02,-15 ; -114.02,15 -84.02,15 ; -114.02,15 -84.02,-15 ; -84.02,-15 -84.02,15 ; -16.02,-15 14,-15 ; -16.02,-15 -16.02,15 ; -16.02,-15 14,15 ; -16.02,15 14,15 ; -16.02,15 14,-15 ; 14,-15 14,15 ; 83,-15 113,-15 ; 83,-15 83,15 ; 83,-15 113,15 ; 83,15 113,15 ; 83,15 113,-15 ; 113,-15 113,15 ; 181,-15 211,15 ; 181,-15 181,15 ; 181,-15 211,-15 ; 181,15 211,-15 ; 181,15 211,15 ; 211,-15 211,15 ; 281,-15 311,15 ; 281,-15 311,-15 ; 281,-15 281,15 ; 281,15 311,-15 ; 281,15 311,15 ; 311,-15 311,15 ; 379,-15 379,15 ; 379,-15 409,-15 ; 379,-15 409,15 ; 379,15 409,15 ; 379,15 409,-15 ; 409,-15 409,15 ; 478,-15 508,-15 ; 478,-15 478,15 ; 478,-15 508,15 ; 478,15 508,15 ; 478,15 508,-15 ; 508,-15 508,15 ; 576,-15 576,15 ; 576,-15 606,15 ; 576,-15 606,-15 ; 576,15 606,15 ; 576,15 606,-15 ; 606,-15 606,15 ; 674,-15 674,15 ; 674,-15 704,15 ; 674,-15 704,-15 ; 674,15 704,15 ; 674,15 704,-15 ; 704,-15 704,15

## S16P [mil]
pads (16):
  oval 60x120 hole 40: 1(739,0) 2(640,0) 3(542,0) 4(443,0) 5(345,0) 6(247,0) 7(148,0) 8(50,0) 9(-49.21,0) 10(-147.64,0) 11(-246.06,0) 12(-344.49,0) 13(-442.91,0) 14(-541.34,0) 15(-639.76,0) 16(-737.81,0)
Top Overlay:
  lines w2: -793.82,-145 -793.82,-105 ; 798,-145 798,-105
  lines w6: -838.82,-50 -838.82,-95 ccw(c-828.82,-95) -828.82,-105 -793.82,-105 -778.82,-105 ; -838.82,-50 843,-50 ; -838.82,-50 -838.82,50 ; -838.82,50 843,50 ; -838.82,50 -838.82,95 cw(c-828.82,95) -828.82,105 833,105 cw(c833,95) 843,95 843,50 ; -778.82,-105 -778.82,-145 -793.82,-145 -858.82,-145 cw(c-858.82,-125) -878.82,-125 -878.82,125 cw(c-858.82,125) -858.82,145 863,145 cw(c863,125) 883,125 883,-125 cw(c863,-125) 863,-145 798,-145 783,-145 783,-105 ; -778.82,-105 -778.82,-85 783,-85 783,-105 ; 783,-105 798,-105 833,-105 ccw(c833,-95) 843,-95 843,-50 ; 843,-50 843,50
  text "1" at 836,-20 h77.5
  text "16" at -780.81,-40 h77.5
Mechanical 16:
  lines w6: -752.8,-15 -752.8,15 ; -752.8,-15 -722.8,-15 ; -752.8,-15 -722.8,15 ; -752.8,15 -722.8,-15 ; -752.8,15 -722.8,15 ; -722.8,-15 -722.8,15 ; -654.8,-15 -654.8,15 ; -654.8,-15 -624.8,-15 ; -654.8,-15 -624.8,15 ; -654.8,15 -624.8,-15 ; -654.8,15 -624.8,15 ; -624.8,-15 -624.8,15 ; -556.81,-15 -556.81,15 ; -556.81,-15 -526.81,-15 ; -556.81,-15 -526.81,15 ; -556.81,15 -526.81,-15 ; -556.81,15 -526.81,15 ; -526.81,-15 -526.81,15 ; -457.8,-15 -457.8,15 ; -457.8,-15 -427.8,-15 ; -457.8,-15 -427.8,15 ; -457.8,15 -427.8,-15 ; -457.8,15 -427.8,15 ; -427.8,-15 -427.8,15 ; -359.8,-15 -359.8,15 ; -359.8,-15 -329.8,-15 ; -359.8,-15 -329.8,15 ; -359.8,15 -329.8,-15 ; -359.8,15 -329.8,15 ; -329.8,-15 -329.8,15 ; -260.83,-15 -260.83,15 ; -260.83,-15 -230.83,-15 ; -260.83,-15 -230.83,15 ; -260.83,15 -230.83,-15 ; -260.83,15 -230.83,15 ; -230.83,-15 -230.83,15 ; -162.8,-15 -132.8,-15 ; -162.8,-15 -162.8,15 ; -162.8,-15 -132.8,15 ; -162.8,15 -132.8,15 ; -162.8,15 -132.8,-15 ; -132.8,-15 -132.8,15 ; -64.8,-15 -64.8,15 ; -64.8,-15 -34.8,15 ; -64.8,-15 -34.8,-15 ; -64.8,15 -34.8,15 ; -64.8,15 -34.8,-15 ; -34.8,-15 -34.8,15 ; 34,-15 64,-15 ; 34,-15 34,15 ; 34,-15 64,15 ; 34,15 64,15 ; 34,15 64,-15 ; 64,-15 64,15 ; 133,-15 163,-15 ; 133,-15 133,15 ; 133,-15 163,15 ; 133,15 163,15 ; 133,15 163,-15 ; 163,-15 163,15 ; 231,-15 261,15 ; 231,-15 231,15 ; 231,-15 261,-15 ; 231,15 261,-15 ; 231,15 261,15 ; 261,-15 261,15 ; 331,-15 361,15 ; 331,-15 361,-15 ; 331,-15 331,15 ; 331,15 361,-15 ; 331,15 361,15 ; 361,-15 361,15 ; 429,-15 429,15 ; 429,-15 459,-15 ; 429,-15 459,15 ; 429,15 459,15 ; 429,15 459,-15 ; 459,-15 459,15 ; 528,-15 558,-15 ; 528,-15 528,15 ; 528,-15 558,15 ; 528,15 558,15 ; 528,15 558,-15 ; 558,-15 558,15 ; 626,-15 626,15 ; 626,-15 656,15 ; 626,-15 656,-15 ; 626,15 656,15 ; 626,15 656,-15 ; 656,-15 656,15 ; 724,-15 724,15 ; 724,-15 754,15 ; 724,-15 754,-15 ; 724,15 754,15 ; 724,15 754,-15 ; 754,-15 754,15

## S17P [mil]
pads (17):
  oval 60x120 hole 40: 1(788,0) 2(689,0) 3(591,0) 4(493,0) 5(394,0) 6(296,0) 7(197,0) 8(99,0) 9(0,0) 10(-98.43,0) 11(-196.85,0) 12(-295.28,0) 13(-393.7,0) 14(-492.13,0) 15(-590.55,0) 16(-688.6,0) 17(-787.6,0)
Top Overlay:
  lines w2: -842.6,-145 -842.6,-105 ; 847,-145 847,-105
  lines w6: -887.6,-50 -887.6,-95 ccw(c-877.6,-95) -877.6,-105 -842.6,-105 -827.6,-105 ; -887.6,-50 892,-50 ; -887.6,-50 -887.6,50 ; -887.6,50 892,50 ; -887.6,50 -887.6,95 cw(c-877.6,95) -877.6,105 882,105 cw(c882,95) 892,95 892,50 ; -827.6,-105 -827.6,-145 -842.6,-145 -907.6,-145 cw(c-907.6,-125) -927.6,-125 -927.6,125 cw(c-907.6,125) -907.6,145 912,145 cw(c912,125) 932,125 932,-125 cw(c912,-125) 912,-145 847,-145 832,-145 832,-105 ; -827.6,-105 -827.6,-85 832,-85 832,-105 ; 832,-105 847,-105 882,-105 ccw(c882,-95) 892,-95 892,-50 ; 892,-50 892,50
  text "1" at 885,-20 h77.5
  text "17" at -829.6,-40 h77.5
Mechanical 16:
  lines w6: -802.6,-15 -772.6,-15 ; -802.6,-15 -802.6,15 ; -802.6,-15 -772.6,15 ; -802.6,15 -772.6,-15 ; -802.6,15 -772.6,15 ; -772.6,-15 -772.6,15 ; -703.58,-15 -673.58,-15 ; -703.58,-15 -703.58,15 ; -703.58,-15 -673.58,15 ; -703.58,15 -673.58,-15 ; -703.58,15 -673.58,15 ; -673.58,-15 -673.58,15 ; -605.59,-15 -575.59,-15 ; -605.59,-15 -605.59,15 ; -605.59,-15 -575.59,15 ; -605.59,15 -575.59,-15 ; -605.59,15 -575.59,15 ; -575.59,-15 -575.59,15 ; -507.6,-15 -477.6,-15 ; -507.6,-15 -507.6,15 ; -507.6,-15 -477.6,15 ; -507.6,15 -477.6,-15 ; -507.6,15 -477.6,15 ; -477.6,-15 -477.6,15 ; -408.58,-15 -378.58,-15 ; -408.58,-15 -408.58,15 ; -408.58,-15 -378.58,15 ; -408.58,15 -378.58,-15 ; -408.58,15 -378.58,15 ; -378.58,-15 -378.58,15 ; -310.59,-15 -280.59,-15 ; -310.59,-15 -310.59,15 ; -310.59,-15 -280.59,15 ; -310.59,15 -280.59,-15 ; -310.59,15 -280.59,15 ; -280.59,-15 -280.59,15 ; -211.61,-15 -181.61,-15 ; -211.61,-15 -211.61,15 ; -211.61,-15 -181.61,15 ; -211.61,15 -181.61,-15 ; -211.61,15 -181.61,15 ; -181.61,-15 -181.61,15 ; -113.58,-15 -83.58,-15 ; -113.58,-15 -113.58,15 ; -113.58,-15 -83.58,15 ; -113.58,15 -83.58,15 ; -113.58,15 -83.58,-15 ; -83.58,-15 -83.58,15 ; -15.59,-15 -15.59,15 ; -15.59,-15 15,15 ; -15.59,-15 15,-15 ; -15.59,15 15,15 ; -15.59,15 15,-15 ; 15,-15 15,15 ; 83,-15 113,-15 ; 83,-15 83,15 ; 83,-15 113,15 ; 83,15 113,15 ; 83,15 113,-15 ; 113,-15 113,15 ; 182,-15 212,-15 ; 182,-15 182,15 ; 182,-15 212,15 ; 182,15 212,15 ; 182,15 212,-15 ; 212,-15 212,15 ; 280,-15 310,15 ; 280,-15 280,15 ; 280,-15 310,-15 ; 280,15 310,-15 ; 280,15 310,15 ; 310,-15 310,15 ; 380,-15 410,15 ; 380,-15 410,-15 ; 380,-15 380,15 ; 380,15 410,-15 ; 380,15 410,15 ; 410,-15 410,15 ; 478,-15 478,15 ; 478,-15 508,-15 ; 478,-15 508,15 ; 478,15 508,15 ; 478,15 508,-15 ; 508,-15 508,15 ; 577,-15 607,-15 ; 577,-15 577,15 ; 577,-15 607,15 ; 577,15 607,15 ; 577,15 607,-15 ; 607,-15 607,15 ; 675,-15 675,15 ; 675,-15 705,15 ; 675,-15 705,-15 ; 675,15 705,15 ; 675,15 705,-15 ; 705,-15 705,15 ; 773,-15 773,15 ; 773,-15 803,15 ; 773,-15 803,-15 ; 773,15 803,15 ; 773,15 803,-15 ; 803,-15 803,15